# EAGLE library part SCD30 (library BW-Active)
CO2, temperature and humidity sensor module
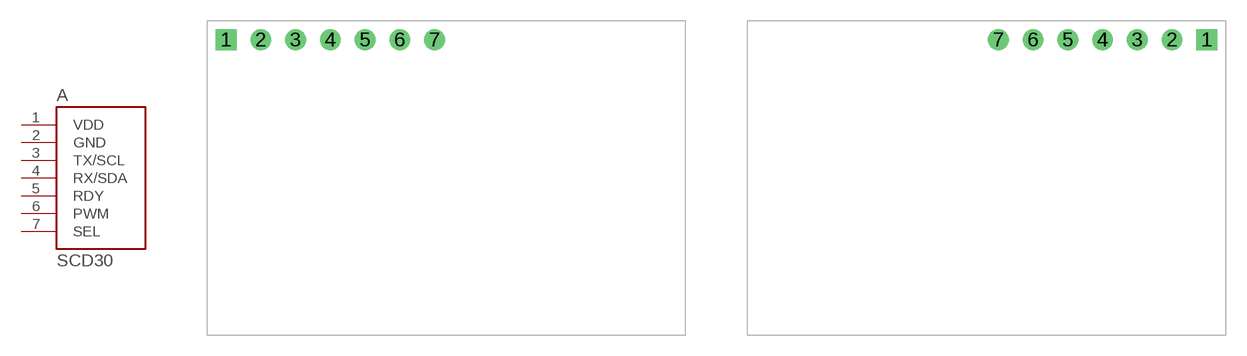
[diagram p5: symbol with the pads of SCD30; footprints SCD30, SCD30-MIRRORED]

Designator prefix A

## SCD30  [SCD30]
1  VDD
2  GND
3  TX/SCL
4  RX/SDA
5  RDY
6  PWM
7  SEL

## SCD30(M)  [SCD30-MIRRORED]
Pads as for SCD30

## Footprint SCD30 (pad centres in mm)
drill 1 square: 1 0,0
drill 1: 2 2.54,0; 3 5.08,0; 4 7.62,0; 5 10.16,0; 6 12.7,0; 7 15.24,0

## Footprint SCD30-MIRRORED (pad centres in mm)
drill 1 square: 1 0,0
drill 1: 2 -2.54,0; 3 -5.08,0; 4 -7.62,0; 5 -10.16,0; 6 -12.7,0; 7 -15.24,0